# Altium schematic symbol library Schlib_DW.SchLib: 38 symbols
Pins are listed as number, name and electrical type; pins without a type are passive.

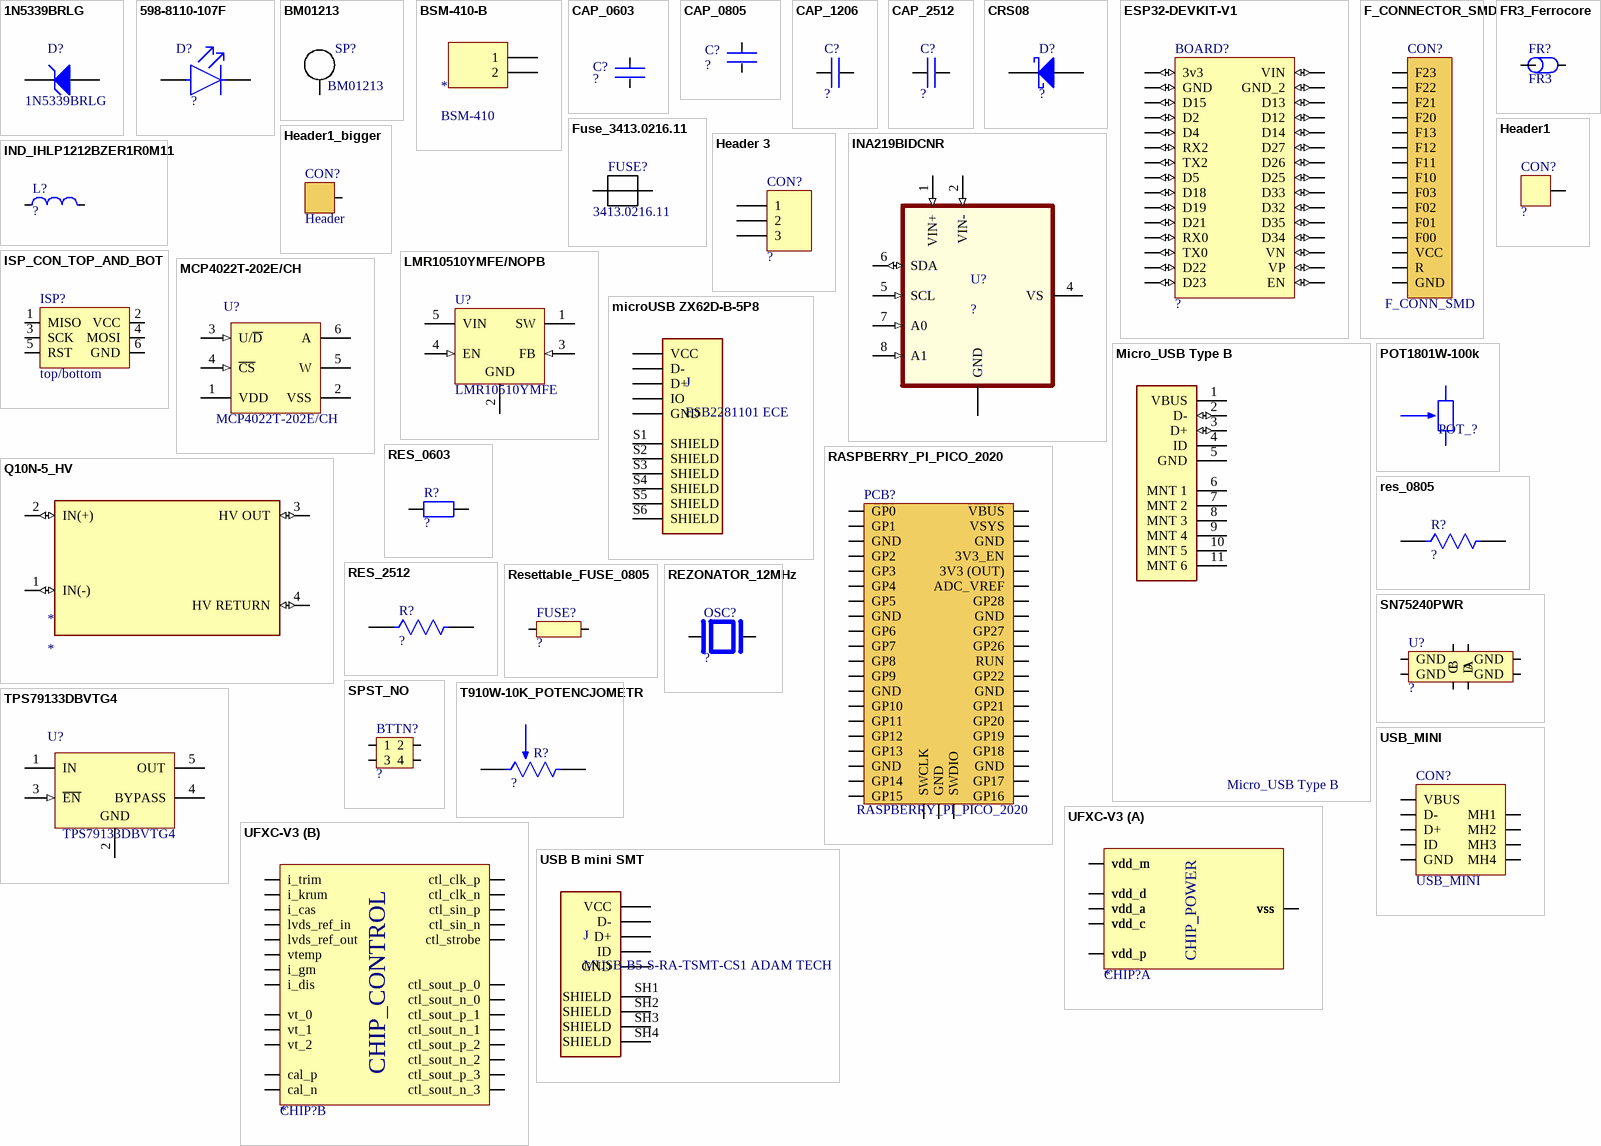
[diagram p0: symbols 1N5339BRLG to USB_MINI]

## 1N5339BRLG
designator D?
5 W Zener Voltage Regulator, 2-Pin Surmetic(TM) 40, Pb-Free, Tape and Reel; Manufacturer: On Semiconductor; P Max (W): 5; VZ Typ (V): 5.6; ComponentLink1Description: Manufacturer URL; ComponentLink2Description: Datasheet; ComponentLink3Description: Package Specification; PackageReference: SURMETIC40-2-017AA-01; ComponentLink3URL: http://www.onsemi.cn/pub_link/Collateral/017AA.PDF; DatasheetVersion: Rev. 14; ComponentLink1URL: http://www.onsemi.com/; ComponentLink2URL: http://www.onsemi.cn/pub_link/Collateral/1N5333B-D.PDF; Packing: Tape and Reel; PackageVersion: Rev. O, 09/2005; PartNumber: 1N5339BRLG; PackageDescription: 2-Pin, Axial Lead, Diameter 3.49 mm; Mounting Technology: Through Hole; RoHS: Pb-Free
footprint ONSC-SURMETIC40-2-017AA-01
footprint ONSC-SURMETIC40-2-017AA-01 (AXIAL, 2-Leads, Diameter 3.49mm)
pins: 1 K, 2 A

## 598-8110-107F
designator D?, comment ?
Obudowa (case): *
footprint Dialight_598_0
pins: 1 C, 2 A

## BM01213
designator SP?
footprint BM01213 (TestPoint)
pins: 1

## BSM-410-B
designator *, comment BSM-410
footprint BSM-410-B
pins: 1, 2

## CAP_0603
designator C?, comment ?
Obudowa (case): 0603
footprint YAGEO_CC0603-DA_MFG
pins: 1, 2

## CAP_0805
designator C?, comment ?
Obudowa (case): 0805
footprint 0805_cap
pins: 1, 2

## CAP_1206
designator C?, comment ?
Obudowa (case): 1206
footprint CAP_1206
pins: 1, 2

## CAP_2512
designator C?, comment ?
Obudowa (case): 2512
footprint RES_CAP_2512
pins: 1, 2

## CRS08
designator D?, comment ?
Obudowa (case): *
footprint CRS08
pins: 1 K, 2 A

## ESP32-DEVKIT-V1
designator BOARD?, comment ?
Obudowa (case): *
footprint ESP32-DEVKIT-V1
pins: 3v3 (io), D2 (io), D4 (io), D5 (io), D12 (io), D13 (io), D14 (io), D15 (io), D18 (io), D19 (io), D21 (io), D22 (io), D23 (io), D25 (io), D26 (io), D27 (io), D32 (io), D33 (io), D34 (io), D35 (io), EN (io), GND (io), GND_2 (io), RX0 (io), RX2 (io), TX0 (io), TX2 (io), VIN (io), VN (io), VP (io)

## F_CONNECTOR_SMD
designator CON?, comment F_CONN_SMD
footprint F_CONNECTOR_SMD
pins: 1 F23, 2 F22, 3 F21, 4 F20, 5 F13, 6 F12, 7 F11, 8 F10, 9 F03, 10 F02, 11 F01, 12 F00, 13 VCC, 14 R, 15 GND

## FR3_Ferrocore
designator FR?, comment FR3
Dławik ferrytowy; Obudowa (case): THT_2x0.95
footprint FR_THT_2x0.95
pins: 1, 2

## Fuse_3413.0216.11
designator FUSE?, comment 3413.0216.11
Bezpiecznik topikowy szybki SCHURTER; Obudowa (case): 1206
footprint 3413.0216.11 SCHURTER
pins: 0, 1

## Header1
designator CON?, comment ?
Obudowa (case): THT
footprint Header1
pins: 1

## Header1_bigger
designator CON?, comment Header
footprint Header_bigger
pins: 1

## Header 3
designator CON?, comment ?
Header, 3-Pin; Obudowa (case): THT; LatestRevisionDate: 17-Jul-2002; LatestRevisionNote: Re-released for DXP Platform.; Publisher: Altium Limited
footprint HDR1X3 (Connector; Header; 3 Position)
pins: 1, 2, 3

## INA219BIDCNR
designator U?, comment ?
26V, 12-bit, i2c output current/voltage/power monitor 8-SOT-23 -40 to 125; MP: INA219BIDCNR; MF: Texas Instruments; SnapEDA_Link: https://www.snapeda.com/parts/INA219BIDCNR/Texas%20Instruments/view-part/870494/?ref=snap; Price: None; Value: *; Purchase-URL: https://pricing.snapeda.com/search/part/INA219BIDCNR/?ref=eda; Availability: Good; Package: SOT-23-8 Texas Instruments
footprint SOT65P280X145-8N
footprint SOT65P280X145-8N
footprint SOT65P280X145-8N
pins: 1 VIN+ (in), 2 VIN- (in), 3 GND (power), 4 VS (power), 5 SCL (in), 6 SDA (io), 7 A0 (in), 8 A1 (in)

## IND_IHLP1212BZER1R0M11
designator L?, comment ?
IND FIXED IND 1UH 5A 24 MOHM SMDIHLP1212BZER1R0M11; Manufacturer: Vishay; Value: 1µH; Part Number: IHLP1212BZER1R0M11; helpURL: https://upverter.com/upn/revision/a7577d212a4a5f82/; ComponentLink2Description: Datasheet; Temperature: -55°C to +125°C; Package: SMD; Supplier 2: Mouser; Price: 0.955996865869; Supplier 1: Digi-Key; ComponentLink1URL: https://upverter.com/upn/revision/a7577d212a4a5f82/; Supplier Part Number 2: 70-IHLP1212BZER1R0M1; Supplier Part Number 1: 541-1319-1-ND; ComponentLink1Description: Upverter; ComponentLink2URL: http://www.vishay.com/docs/34289/lp12bz11.pdf; RoHS: TRUE; Mouser Part Number: 70-IHLP1212BZER1R0M1; Ipc Land Pattern Name: CAPC10050X35; Temperature Range High: +125°C; Digikey Description: IND FIXED IND 1UH 5A 24 MOHM SMD; Digikey Part Number: 541-1319-1-ND; Lead Free: yes; Temperature Range Low: -55°C
footprint Vishay_IHLP1212BZER1R0M11_0
pins: 1, 2

## ISP_CON_TOP_AND_BOT
designator ISP?, comment top/bottom
Obudowa (case): THT
footprint ISP_TOP_BOT
pins: 1 MISO, 2 VCC, 3 SCK, 4 MOSI, 5 RST, 6 GND

## LMR10510YMFE/NOPB
designator U?, comment LMR10510YMFE
Simple Switcher, Step-Down Voltage Regulator, 3 to 5.5 V Input, 1 A, 0.6 to 4.5 V Output, -40 to 125 degC, 5-Pin SOT-23 (DBV), Green (RoHS & no Sb/Br), Tape and Reel; PartNumber: LMR10510YMFE/NOPB; Forward Current: 70 mA; Forward Voltage: 1 V; Case\Package: TO-236-3; Peak Reverse Current: 10 uA; Max Surge Current: 100 mA; Obudowa (case): SOT-23-5; RoHSCompliant: true; Min Operating Temperature: -65 degC; Width: 0.25 inch; Pins: 3; ComponentLink1Description: Manufacturer URL; ComponentLink2Description: Datasheet; ComponentLink3URL: http://www.ti.com/lit/ml/mpds018l/mpds018l.pdf; ComponentLink1URL: http://www.ti.com/; Code_JEDEC: MO-178; ComponentLink2URL: http://www.ti.com/lit/ds/symlink/lmr10510.pdf; PackageReference: DBV0005A; ComponentLink3Description: Package Specification; Mount: Surface Mount; Length: 0.25 inch; REACH SVHC: No SVHC; Radiation Hardening: No; Max Operating Temperature: 150 degC; Weight: 0.01 lb; Package Quantity: 3000; DatasheetVersion: SNVS727B, 04/2013; Height: 0.25 inch; Packaging: Tape and Reel; PackageDescription: 5-Pin Small Outline Transistor, Body 2.9 x 1.6 mm, Pitch 0.95 mm
footprint DBV0005A_L (SOT23, 5-Leads, Body 3.05x1.75mm, Pitch 0.95mm, IPC High Density)
pins: 1 SW (power) "Switch node. Connect to the inductor, output diode.", 2 GND (power) "Signal and power ground pin. Place the bottom resistor of the feedback network as close as possible to this pin.", 3 FB (in) "Feedback pin. Connect FB to external resistor divider to set output voltage.", 4 EN (in) "Shutdown control input. Logic high enables operation. Do not allow this pin to float or be greater than VIN + 0.3V.", 5 VIN (power) "input supply voltage."

## MCP4022T-202E/CH
designator U?
Low-Cost NV Digital POT with WiperLock Technology, 6-Pin SOT-23, Extended Temperature, Tape and Reel; Obudowa (case): SOT-23-6; PackageDescription: 6-Lead Plastic Small Outline Transistor (CH) [SOT-23]; PackageVersion: revBB, Aug-2009; DatasheetVersion: revE, Dec-2006; Code_IPC: SOT26A-6; PackageReference: SOT-23-CH6; PartNumber: MCP4022T-202E/CH
footprint SOT-23-CH6_M
footprint SOT-23-CH6_L
footprint SOT-23-CH6_N
pins: 1 VDD (power), 2 VSS (power), 3 U/~{D} (in), 4 ~{CS} (in), 5 W, 6 A

## Micro_USB Type B
designator Micro_USB Type B  (value not drawn)
footprint Molex_0_MFG
pins: 1 VBUS (power), 2 D- (io), 3 D+ (io), 4 ID, 5 GND (power), 6 MNT 1, 7 MNT 2, 8 MNT 3, 9 MNT 4, 10 MNT 5, 11 MNT 6

## microUSB ZX62D-B-5P8
designator J, comment ESB2281101 ECE
Conn Micro USB 2.0 Type B RCP 5 POS 0.65mm Solder RA SMD 5 Terminal 1 Port Embossed T/R; MF: Hirose; MP: ZX62D-B-5P8; Value: *; Availability: Unavailable; SnapEDA_Link: https://www.snapeda.com/parts/ZX62D-B-5P8/Hirose%20Electric%20Co%20Ltd/view-part/46842/?ref=snap; Package: FakePackage u; Price: None
footprint HRS_ZX62D-B-5P8
footprint microUSB HRS_ZX62D-B-5P8
pins: D+, D-, GND, ID IO, S1 SHIELD, S2 SHIELD, S3 SHIELD, S4 SHIELD, S5 SHIELD, S6 SHIELD, VCC

## POT1801W-100k
designator POT_?  (value not drawn)
Square Trimming Potentiometer
footprint 1801WSMD-100K (Square Trimming Potentiometer)
pins: CCW, CW, W

## Q10N-5_HV
designator *
footprint Q10N-5 HV
pins: 1 IN(-) (io), 2 IN(+) (io), 3 HV OUT (io), 4 HV RETURN (io)

## RASPBERRY_PI_PICO_2020
designator PCB?
footprint RASPBERRY_PI_PICO_2020\
pins: 1 GP0, 2 GP1, 3 GND, 4 GP2, 5 GP3, 6 GP4, 7 GP5, 8 GND, 9 GP6, 10 GP7, 11 GP8, 12 GP9, 13 GND, 14 GP10, 15 GP11, 16 GP12, 17 GP13, 18 GND, 19 GP14, 20 GP15, 21 SWCLK, 22 GND, 23 SWDIO, 24 GP16, 25 GP17, 26 GND, 27 GP18, 28 GP19, 29 GP20, 30 GP21, 31 GND, 32 GP22, 33 RUN, 34 GP26, 35 GP27, 36 GND, 37 GP28, 38 ADC_VREF, 39 3V3 (OUT), 40 3V3_EN, 41 GND, 42 VSYS, 43 VBUS

## RES_0603
designator R?, comment ?
Obudowa (case): 0603
footprint RES_0603 (Resistor_0603)
pins: 1, 2

## res_0805
designator R?, comment ?
Obudowa (case): 0805
footprint res_0805
pins: 1, 2

## RES_2512
designator R?, comment ?
Obudowa (case): 2512
footprint RES_CAP_2512
pins: 1, 2

## Resettable_FUSE_0805
designator FUSE?, comment ?
Obudowa (case): 0805
footprint res_0805
pins: 1, 2

## REZONATOR_12MHz
designator OSC?, comment ?
Obudowa (case): SMD
footprint HC-49-SMD
pins: 1, 2

## SN75240PWR
designator U?, comment ?
Obudowa (case): TSSOP-8
footprint SN75240PWR_TSSOP_8
pins: 1 GND, 2 C, 3 GND, 4 D, 5 GND, 6 B, 7 GND, 8 A

## SPST_NO
designator BTTN?, comment ?
Obudowa (case): SMD
footprint SPST_NO
pins: 1, 2, 3, 4

## T910W-10K_POTENCJOMETR
designator R?, comment ?
Obudowa (case): SMD
footprint T910W-10K SR PASSIVES
pins: CW1, CW3, WIPER

## TPS79133DBVTG4
designator U?
Single Output High PSRR LDO, 100 mA, Fixed 3.3 V Output, 2.7 to 5.5 V Input, 5-pin SOT-23 (DBV), -40 to 125 degC, Green (RoHS & no Sb/Br); Manufacturer: Texas Instruments; Accuracy(%): 2; Iq(Typ)(mA): 0.2; Vin(Min)(V): 2.7; Vout Adj(Min)(V): 3.3; SubFamily: Single Channel LDO; Vin(Max)(V): 5.5; Rating: Catalog; Iout(Max)(A): 0.1; Vdo(Typ)(mV): 50; Obudowa (case): SOT-23-5; ComponentLink4Description: URL Link1; Eco-Plan: Green (RoHS & no Sb/Br); PartNumber: TPS79133DBVTG4; ComponentLink1Description: Manufacturer URL; ComponentLink2Description: Datasheet; DatasheetVersion: SLVS325C; ComponentLink3URL: http://www.ti.com/litv/pdf/mpds018i; Vout Adj(Max)(V): 3.3; ComponentLink1URL: http://www.ti.com/; Fixed Output Options(V): 3.3; Code_JEDEC: MO-178; ComponentLink4URL: Samples URL:http://www.ti.com/product/tps79133#samples; ComponentLink2URL: http://www.ti.com/general/docs/lit/getliterature.tsp?genericPartNumber=TPS79133&fileType=pdf; ComponentLink3Description: Package Specification; PackageVersion: 4073253-4/K; Mounting Technology: Surface Mount; PackageReference: DBV5; PackageDescription: 5-Pin Plastic Small Outline, Body 1.60 Ãƒâ€” 2.90 mm, Pitch 0.95 mm
footprint TI-DBV5_N
footprint TI-DBV5_L
footprint TI-DBV5_M
pins: 1 IN (power) "The IN terminal is the input to the device.", 2 GND (power) "Regulator ground", 3 ~{EN} (in) "The E\N\ terminal is an input which enables or shuts down the device. When E\N\ is a logic high, the device will be in shutdown mode. When E\N\ is a logic low, the device will be enabled.", 4 BYPASS "An external bypass capacitor, connected to this terminal, in conjunction with an internal resistor, creates a low-pass filter to further reduce regulator noise.", 5 OUT (power) "The OUT terminal is the regulated output of the device."

## UFXC-V3
designator CHIP?
Obudowa (case): Bonding
footprint PS_UFXC_V4
part A pins: vdd_a_1 vdd_a, vdd_a_2 vdd_a, vdd_a_3 vdd_a, vdd_a_4 vdd_a, vdd_a_5 vdd_a, vdd_a_6 vdd_a, vdd_a_7 vdd_a, vdd_core_1 vdd_c, vdd_core_2 vdd_c, vdd_core_3 vdd_c, vdd_core_4 vdd_c, vdd_core_5 vdd_c, vdd_core_6 vdd_c, vdd_core_7 vdd_c, vdd_core_8 vdd_c, vdd_core_9 vdd_c, vdd_core_10 vdd_c, vdd_discr_1 vdd_d, vdd_discr_2 vdd_d, vdd_discr_3 vdd_d, vdd_discr_4 vdd_d, vdd_discr_5 vdd_d, vdd_discr_6 vdd_d, vdd_m_1 vdd_m, vdd_m_2 vdd_m, vdd_m_3 vdd_m, vdd_m_4 vdd_m, vdd_m_5 vdd_m, vdd_m_6 vdd_m, vdd_peri_1 vdd_p, vdd_peri_2 vdd_p, vdd_peri_3 vdd_p, vdd_peri_4 vdd_p, vss_1 vss, vss_2 vss, vss_3 vss, vss_4 vss, vss_5 vss, vss_6 vss, vss_7 vss, vss_8 vss, vss_9 vss, vss_10 vss, vss_11 vss, vss_12 vss, vss_13 vss, vss_14 vss, vss_15 vss, vss_16 vss, vss_17 vss, vss_18 vss, vss_19 vss, vss_20 vss, vss_21 vss, vss_22 vss, vss_23 vss, vss_24 vss, vss_25 vss, vss_26 vss, vss_27 vss, vss_28 vss, vss_29 vss
part B pins: cal_n, cal_p, ctl_clk_n, ctl_clk_p, ctl_sin_n, ctl_sin_p, ctl_sout_n_0, ctl_sout_n_1, ctl_sout_n_2, ctl_sout_n_3, ctl_sout_p_0, ctl_sout_p_1, ctl_sout_p_2, ctl_sout_p_3, ctl_strobe, i_cas, i_dis, i_gm, i_krum, i_trim, lvds_ref_in, lvds_ref_out, vt_0, vt_1, vt_2, vtemp
part A text: CHIP_POWER
part B text: CHIP_CONTROL

## USB B mini SMT
designator J, comment MUSB-B5-S-RA-TSMT-CS1 ADAM TECH
Mini B, USB 2.0, 1 A, Right Angle, Surface Mount _SMT_, USB Receptacle; MP: UJ2-MBH-1-SMT; MF: CUI Devices; Availability: Unavailable; CUI_purchase_URL: https://www.cuidevices.com/product/interconnect/connectors/usb-connectors/uj2-mbh-smt-series?utm_source=snapeda.com&utm_medium=referral&utm_campaign=snapedaBOM; Package: None; SnapEDA_Link: https://www.snapeda.com/parts/UJ2-MBH-1-SMT/CUI%20Devices/view-part/605586/?ref=snap; Value: *; Price: None
footprint CUI_UJ2-MBH-1-SMT
footprint USB B mini SMT
pins: D+, D-, GND, ID, SH1 SHIELD, SH2 SHIELD, SH3 SHIELD, SH4 SHIELD, VCC

## USB_MINI
designator CON?
Obudowa (case): SMD
footprint USB_MINI
pins: 1 VBUS, 2 D-, 3 D+, 4 ID, 5 GND, 6 MH1, 7 MH2, 8 MH3, 9 MH4